# EAGLE library part UJ2-B-HR-G-V (library UJ2-B-HR-G-V)
Type B, USB 2.0, 480 Mbps, 5 Vdc, 1.5 A, Vertical, Through Hole Mounting Style, Through Hole Contact Pin Type. Gold Flash, Board Lock, 4 Pin, USB Receptacle Source: Datasheet <https://www.sameskydevices.com/product/resource/uj2-b-hr-g-v.pdf>
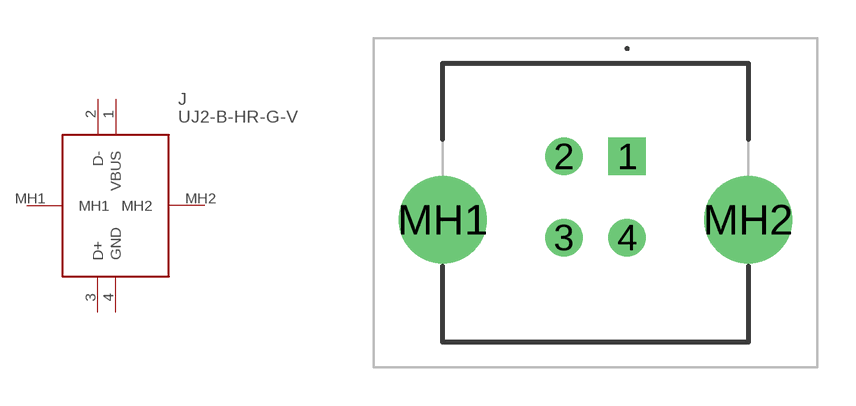
[diagram p0: symbol with the pads of UJ2BHRGV; footprint UJ2BHRGV]

Designator prefix J

## UJ2-B-HR-G-V (Description: Type B, USB 2.0, 480 Mbps, 5 Vdc, 1.5 A, Vertical, Through Hole Mounting Style, Through Hole Contact Pin Type. Gold Flash, Board Lock, 4 Pin, USB Receptacle; Height: 16.5mm; Manufacturer_Name: Same Sky; Manufacturer_Part_Number: UJ2-B-HR-G-V; Mouser_Part_Number: 179-UJ2-B-HR-G-V; Mouser_Price-Stock: https://www.mouser.co.uk/ProductDetail/CUI-Devices/UJ2-B-HR-G-V?qs=HoCaDK9Nz5fUWn12FBL%2Fqw%3D%3D)  [UJ2BHRGV]
1  VBUS
2  D-
3  D+
4  GND
MH1  MH1
MH2  MH2

## Footprint UJ2BHRGV (pad centres in mm)
UJ2-B-HR-G-V-2
drill 0.95 pad 1.478 square: 1 0,0
drill 0.95 pad 1.478: 2 -2.5,0; 3 -2.5,-3.2; 4 0,-3.2
drill 2.3 pad 3.45: MH1 -7.27,-2.5; MH2 4.77,-2.5